# EAGLE library part BMP280 (library bmp280)
Digital Pressure Sensor <https://componentsearchengine.com/Images/1/BMP280.jpg> Source: Datasheet <https://ae-bst.resource.bosch.com/media/products/dokumente/bmp280/BST-BMP280-DS001-11.pdf>
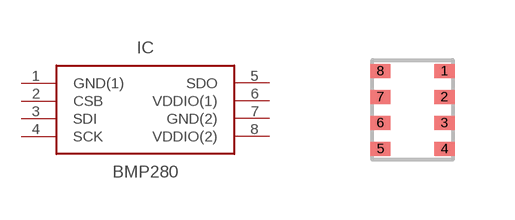
[diagram p0: symbol with the pads of 8-PIN-METAL-LID-LGA; footprint 8-PIN-METAL-LID-LGA]

Designator prefix IC

## BMP280 (Description: Digital Pressure Sensor; Height: mm; Manufacturer_Name: Bosch Sensortec; Manufacturer_Part_Number: bmp280; Supplier_Name: RS)  [8-PIN-METAL-LID-LGA]
1  GND(1)  pwr
2  CSB  in
3  SDI  pas
4  SCK  pas
5  SDO  pas
6  VDDIO(1)  pwr
7  GND(2)  pwr
8  VDDIO(2)  pwr

## Footprint 8-PIN-METAL-LID-LGA (pad centres in mm)
8-pin metal-lid LGA
smd 0.5 x 0.35: 1 0.8,0.975; 2 0.8,0.325; 3 0.8,-0.325; 4 0.8,-0.975; 5 -0.8,-0.975; 6 -0.8,-0.325; 7 -0.8,0.325; 8 -0.8,0.975